# Altium footprint library MezzaninBoard.PcbLib: 17 footprints (part 1 of 2)
Each footprint in its own frame and in the unit in brackets; x right, y up, seen from the top. Pads: shape width x height; smd on the part's side, far side on the other; paste and mask are expansions set on the pad; w line width, h text height; cw(c..) or ccw(c..) is an arc to the next point about the centre after c.
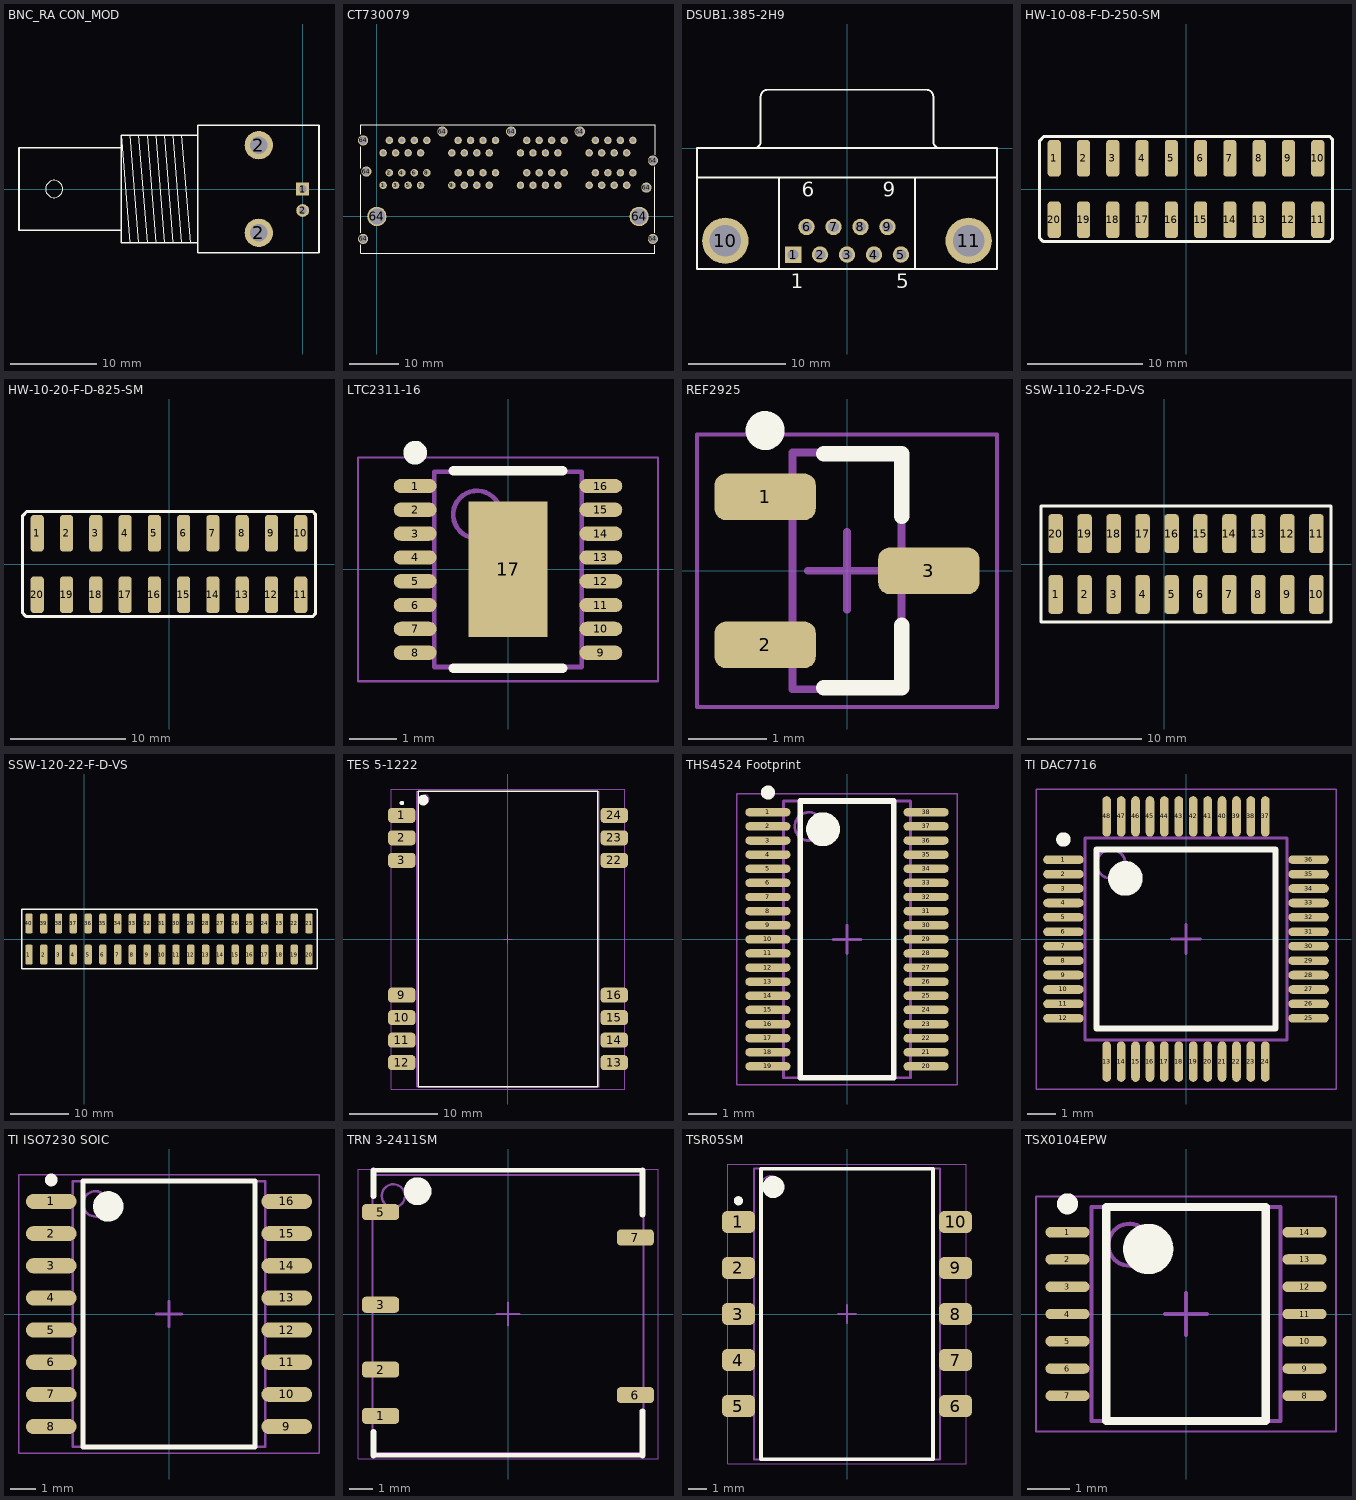
[diagram p0: the footprints below, top view; thin cyan lines are the x and y axes]

## BNC_RA CON_MOD [mm] "Connector; BNC Elbow"
pads (4):
  rect 1.5x1.5 hole 0.9: 1(0,0)
  round 3.3 hole 2: 2(-5.1,-5.1) 2(-5.1,5.1)
  round 1.5 hole 0.9: 2(0,-2.5)
Top Overlay:
  circle w0.025: c-28.9,0 r1
  lines w0.025: -20.1,-6.25 -21.1,6.25 ; -20.1,6.25 -19.1,-6.25 ; -19.1,6.25 -18.1,-6.25 ; -18.1,6.25 -17.1,-6.25 ; -17.1,6.25 -16.1,-6.25 ; -16.1,6.25 -15.1,-6.25 ; -15.1,6.25 -14.1,-6.25 ; -14.1,6.25 -13.1,-6.25 ; -21.1,-4.8 -33,-4.8 -33,4.8 -21.1,4.8 ; -21.1,-4.8 -21.1,4.8 ; -21.1,-4.8 -21.1,-6.25 -12.2,-6.25 ; -21.1,4.8 -21.1,6.25 ; -21.1,6.25 -12.2,6.25 ; -12.2,-6.25 -12.2,6.25 ; -12.2,-6.25 -12.2,-7.4 1.9,-7.4 1.9,7.4 -12.2,7.4 -12.2,6.25
  lines w0.2: -21.1,-4.8 -21.1,4.8 ; -21.1,-4.8 -33,-4.8 -33,4.8 -21.1,4.8 ; -21.1,-4.8 -21.1,-6.25 -12.2,-6.25 ; -21.1,4.8 -21.1,6.25 -12.2,6.25 ; -12.2,-6.25 -12.2,6.25 ; -12.2,-6.25 -12.2,-7.4 1.9,-7.4 1.9,7.4 -12.2,7.4 -12.2,6.25
3D body "227677-1.stp": height 15.88, standoff -4.11, extent -33.655,-7.379 1.905,7.379

## CT730079 [mil] "8 Channel CAT5 Connector"
height 1062.99
pads (75):
  round 60 hole 35: 1(50,250) 2(100,350) 3(150,250) 4(200,350) 5(250,250) 6(300,350) 7(350,250) 8(400,350) 9(600,250) 10(650,350) 11(700,250) 12(750,350) 13(800,250) 14(850,350) 15(900,250) 16(950,350) 17(1150,250) 18(1200,350) 19(1250,250) 20(1300,350) 21(1350,250) 22(1400,350) 23(1450,250) 24(1500,350) 25(1700,250) 26(1750,350) 27(1800,250) 28(1850,350) 29(1900,250) 30(1950,350) 31(2000,250) 32(2050,350) 33(2050,609) 34(2000,509) 35(1950,609) 36(1900,509) 37(1850,609) 38(1800,509) 39(1750,609) 40(1700,509) 41(1500,609) 42(1450,509) 43(1400,609) 44(1350,509) 45(1300,609) 46(1250,509) 47(1200,609) 48(1150,509) 49(950,609) 50(900,509) 51(850,609) 52(800,509) 53(750,609) 54(700,509) 55(650,609) 56(600,509) 57(400,609) 58(350,509) 59(300,609) 60(250,509) 61(200,609) 62(150,509) 63(100,609) 64(50,509)
  round 82 hole 62: 64(-110,-180) 64(-110,609) 64(-84,360) 64(525,680) 64(1075,680) 64(1625,680) 64(2158,231) 64(2210,-180) 64(2210,448)
  round 155 hole 129: 64(0,0) 64(2100,0)
Top Overlay:
  lines w10: -128,-228 -128,-295 2226,-295 2226,-229 ; -128,-132 -128,333 ; -128,657 -128,735 2228,735 2228,496 ; -127,388 -127,560 ; 2226,-131 2226,400
3D body "70042890.stp": height 1037.5, standoff -157.3, extent -165,-415 2245,705

## DSUB1.385-2H9 [mm] "Connector; D Subminiature; 9 Position; Right Angle; Pitch 1.385 mm"
height 12.75
pads (11):
  rect 1.69x1.69 hole 1.09: 1(-5.54,-10.92)
  round 1.69 hole 1.09: 2(-2.77,-10.92) 3(0,-10.92) 4(2.77,-10.92) 5(5.54,-10.92) 6(-4.155,-8.08) 7(-1.385,-8.08) 8(1.385,-8.08) 9(4.155,-8.08)
  round 4.76 hole 3.26: 10(-12.495,-9.5) 11(12.495,-9.5)
Top Overlay:
  lines w0.2: -15.4,-3 15.4,-3 ; -9.56,0.005 ccw(c-9.56,0.7) -8.865,0.7 -8.865,5.3 ; -8.86,5.305 cw(c-8.165,5.305) -8.165,6 8.165,6 cw(c8.165,5.305) 8.86,5.305 ; -7,-12.4 -7,-3 ; 7,-12.4 7,-3 ; 8.865,5.3 8.865,0.7 ccw(c9.56,0.7) 9.56,0.005 ; -15.4,-12.4 -15.4,0 15.4,0 15.4,-12.4 -15.4,-12.4
  text "1" at -5.79,-14.375 h1.5
  text "5" at 5.04,-14.375 h1.5
  text "9" at 3.655,-4.975 h1.5
  text "6" at -4.655,-4.975 h1.5
3D body "c-2311765-1-b-3d.stp": height 12.8, standoff -3.85, extent -15.5,-12.5 15.31,5.7

## HW-10-08-F-D-250-SM [mil]
height 250
pads (20):
  rrect50% 45x125 smd: 1(-450,105) 2(-350,105) 3(-250,105) 4(-150,105) 5(-50,105) 6(50,105) 7(150,105) 8(250,105) 9(350,105) 10(450,105) 11(450,-105) 12(350,-105) 13(250,-105) 14(150,-105) 15(50,-105) 16(-50,-105) 17(-150,-105) 18(-250,-105) 19(-350,-105) 20(-450,-105)
Top Overlay:
  lines w10: -500,-167.5 -500,165 -485,180 490,180 500,170 500,-170 490,-180 -487.5,-180 -492.5,-175 -500,-167.5
3D body "HW-10-08-F-D-250-SM.stp": height 465, standoff 0, extent -500,-147.5 500,147.5

## HW-10-20-F-D-825-SM [mil]
height 825
pads (20):
  rrect50% 45x125 smd: 1(-450,105) 2(-350,105) 3(-250,105) 4(-150,105) 5(-50,105) 6(50,105) 7(150,105) 8(250,105) 9(350,105) 10(450,105) 11(450,-105) 12(350,-105) 13(250,-105) 14(150,-105) 15(50,-105) 16(-50,-105) 17(-150,-105) 18(-250,-105) 19(-350,-105) 20(-450,-105)
Top Overlay:
  lines w10: -500,-167.5 -500,165 -485,180 490,180 500,170 500,-170 490,-180 -487.5,-180 -492.5,-175 -500,-167.5
3D body "HW-10-20-F-D-825-SM.stp": height 1065, standoff 0, extent -500,-147.49 500,147.51

## LTC2311-16 [mm] "16 Bit ADC, Linear Technologies"
height 1.1
pads (17):
  oval 0.9x0.3 smd mask+0.05: 1(-1.95,1.75) 2(-1.95,1.25) 3(-1.95,0.75) 4(-1.95,0.25) 5(-1.95,-0.25) 6(-1.95,-0.75) 7(-1.95,-1.25) 8(-1.95,-1.75) 9(1.95,-1.75) 10(1.95,-1.25) 11(1.95,-0.75) 12(1.95,-0.25) 13(1.95,0.25) 14(1.95,0.75) 15(1.95,1.25) 16(1.95,1.75)
  rect 1.65x2.85 smd: 17(0,0)
Top Overlay:
  circle w0.25: c-1.95,2.45 r0.125
  lines w0.2: -1.15,-2.075 1.15,-2.075 ; -1.15,2.075 1.15,2.075
Mechanical 13:
  circle w0.1: c-0.65,1.15 r0.5
  lines w0.1: -1.55,-2.05 -1.55,2.05 1.55,2.05 1.55,-2.05 -1.55,-2.05
Mechanical 15:
  lines w0.05: -3.15,-2.35 -3.15,2.35 3.15,2.35 3.15,-2.35 -3.15,-2.35
  lines w0.1: -0.5,0 0.5,0 ; 0,-0.5 0,0.5
3D body: height 1.1, standoff 0.05, extent -1.55,-2.05 1.55,2.05

## REF2925 [mm] "TI 2.5V Ref source"
height 1.12
pads (3):
  rrect50% 1.3x0.6 smd: 1(-1.05,0.95) 2(-1.05,-0.95) 3(1.05,0)
Top Overlay:
  circle w0.25: c-1.05,1.8 r0.125
  lines w0.2: -0.3,-1.5 0.7,-1.5 0.7,-0.7 ; -0.3,1.5 0.7,1.5 0.7,0.7
Mechanical 13:
  lines w0.1: -0.7,-1.52 -0.7,1.52 0.7,1.52 0.7,-1.52 -0.7,-1.52
Mechanical 15:
  lines w0.05: -1.925,-1.75 -1.925,1.75 1.925,1.75 1.925,-1.75 -1.925,-1.75
  lines w0.1: -0.5,0 0.5,0 ; 0,-0.5 0,0.5
3D body: height 1.12, standoff 0.05, extent -0.7,-1.52 0.7,1.52

## SSW-110-22-F-D-VS [mm]
height 8.509
pads (20):
  rrect50% 1.27x3.43 smd: 1(-9.525,-2.667) 2(-6.985,-2.667) 3(-4.445,-2.667) 4(-1.905,-2.667) 5(0.635,-2.667) 6(3.175,-2.667) 7(5.715,-2.667) 8(8.255,-2.667) 9(10.795,-2.667) 10(13.335,-2.667) 11(13.335,2.667) 12(10.795,2.667) 13(8.255,2.667) 14(5.715,2.667) 15(3.175,2.667) 16(0.635,2.667) 17(-1.905,2.667) 18(-4.445,2.667) 19(-6.985,2.667) 20(-9.525,2.667)
Top Overlay:
  lines w0.254: -10.795,-5.08 14.605,-5.08 14.605,5.08 -10.795,5.08 -10.795,-5.08
3D body: height 0.25, standoff 0, extent 0.127,-4.699 0.127,-4.699
3D body "SSW-110-22-F-D-VS.stp": height 9.78, standoff 0, extent -11.049,-3.937 14.859,3.937
3D body: height 0.25, standoff 0, extent 1.905,0 1.905,0

## SSW-120-22-F-D-VS [mil]
height 335
pads (40):
  rrect50% 50x135.04 smd: 1(-375,-105) 2(-275,-105) 3(-175,-105) 4(-75,-105) 5(25,-105) 6(125,-105) 7(225,-105) 8(325,-105) 9(425,-105) 10(525,-105) 11(620,-105) 12(720,-105) 13(820,-105) 14(920,-105) 15(1020,-105) 16(1120,-105) 17(1220,-105) 18(1320,-105) 19(1420,-105) 20(1520,-105) 21(1520,105) 22(1420,105) 23(1320,105) 24(1220,105) 25(1120,105) 26(1020,105) 27(920,105) 28(820,105) 29(720,105) 30(620,105) 31(525,105) 32(425,105) 33(325,105) 34(225,105) 35(125,105) 36(25,105) 37(-75,105) 38(-175,105) 39(-275,105) 40(-375,105)
Top Overlay:
  lines w10: 575,-200 1575,-200 ; 575,200 1575,200 ; 1575,-200 -425,-200 -425,200 1575,200 ; 1575,-200 1575,200
3D body: height 10, standoff 0, extent 75,0 75,0
3D body: height 10, standoff 0, extent 5,-185 5,-185
3D body: height 10, standoff 0, extent 770,315 770,315
3D body "SSW-120-22-F-D-VS.stp": height 385, standoff 0, extent -434.99,-154.99 1585.01,155

## TES 5-1222 [mm]
height 10.2
pads (14):
  rrect50% 3.1x1.7 smd: 1(-12,13.97) 2(-12,11.43) 3(-12,8.89) 9(-12,-6.35) 10(-12,-8.89) 11(-12,-11.43) 12(-12,-13.97) 13(12,-13.97) 14(12,-11.43) 15(12,-8.89) 16(12,-6.35) 22(12,8.89) 23(12,11.43) 24(12,13.97)
Top Overlay:
  circle w0.25: c-12,15.37 r0.125
  circle w0.6: c-9.575,15.7 r0.3
  lines w0.2: -10.135,-16.7 -10.135,16.7 10.135,16.7 10.135,-16.7 -10.135,-16.7
Mechanical 13:
  circle w0.1: c-9.4,15.8 r0.5
  lines w0.1: -10.3,-16.7 -10.3,16.7 10.3,16.7 10.3,-16.7 -10.3,-16.7
Mechanical 15:
  lines w0.05: -13.2,-16.95 -13.2,16.95 13.2,16.95 13.2,-16.95 -13.2,-16.95
  lines w0.1: -0.5,0 0.5,0 ; 0,-0.5 0,0.5
3D body: height 10.2, standoff 0.4, extent -10.3,-16.7 10.3,16.7

## THS4524 Footprint [mm] "THS4524 4Ch Dif Amp, TSSOP"
height 1.2
pads (38):
  oval 1.6x0.3 smd mask+0.05: 1(-2.8,4.5) 2(-2.8,4) 3(-2.8,3.5) 4(-2.8,3) 5(-2.8,2.5) 6(-2.8,2) 7(-2.8,1.5) 8(-2.8,1) 9(-2.8,0.5) 10(-2.8,0) 11(-2.8,-0.5) 12(-2.8,-1) 13(-2.8,-1.5) 14(-2.8,-2) 15(-2.8,-2.5) 16(-2.8,-3) 17(-2.8,-3.5) 18(-2.8,-4) 19(-2.8,-4.5) 20(2.8,-4.5) 21(2.8,-4) 22(2.8,-3.5) 23(2.8,-3) 24(2.8,-2.5) 25(2.8,-2) 26(2.8,-1.5) 27(2.8,-1) 28(2.8,-0.5) 29(2.8,0) 30(2.8,0.5) 31(2.8,1) 32(2.8,1.5) 33(2.8,2) 34(2.8,2.5) 35(2.8,3) 36(2.8,3.5) 37(2.8,4) 38(2.8,4.5)
Top Overlay:
  circle w0.6: c-0.85,3.9 r0.3
  circle w0.25: c-2.8,5.2 r0.125
  lines w0.2: -1.651,-4.9 1.651,-4.9 1.651,4.9 -1.651,4.9 -1.651,-4.9
Mechanical 13:
  circle w0.1: c-1.35,4 r0.5
  lines w0.1: -2.25,-4.9 2.25,-4.9 2.25,4.9 -2.25,4.9 -2.25,-4.9
Mechanical 15:
  lines w0.05: -3.9,-5.15 3.9,-5.15 3.9,5.15 -3.9,5.15 -3.9,-5.15
  lines w0.1: -0.5,0 0.5,0 ; 0,-0.5 0,0.5
3D body: height 1.2, standoff 0.05, extent -2.25,-4.9 2.25,4.9

## TI DAC7716 [mm] "TSQFP, 48-Leads, Body 7,00x7,00mm, Pitch 0,50mm, IPC Medium Density"
height 1.2
pads (48):
  oval 1.4x0.3 smd mask+0.05: 1(-4.25,2.75) 2(-4.25,2.25) 3(-4.25,1.75) 4(-4.25,1.25) 5(-4.25,0.75) 6(-4.25,0.25) 7(-4.25,-0.25) 8(-4.25,-0.75) 9(-4.25,-1.25) 10(-4.25,-1.75) 11(-4.25,-2.25) 12(-4.25,-2.75) 25(4.25,-2.75) 26(4.25,-2.25) 27(4.25,-1.75) 28(4.25,-1.25) 29(4.25,-0.75) 30(4.25,-0.25) 31(4.25,0.25) 32(4.25,0.75) 33(4.25,1.25) 34(4.25,1.75) 35(4.25,2.25) 36(4.25,2.75)
  oval 0.3x1.4 smd mask+0.05: 13(-2.75,-4.25) 14(-2.25,-4.25) 15(-1.75,-4.25) 16(-1.25,-4.25) 17(-0.75,-4.25) 18(-0.25,-4.25) 19(0.25,-4.25) 20(0.75,-4.25) 21(1.25,-4.25) 22(1.75,-4.25) 23(2.25,-4.25) 24(2.75,-4.25) 37(2.75,4.25) 38(2.25,4.25) 39(1.75,4.25) 40(1.25,4.25) 41(0.75,4.25) 42(0.25,4.25) 43(-0.25,4.25) 44(-0.75,4.25) 45(-1.25,4.25) 46(-1.75,4.25) 47(-2.25,4.25) 48(-2.75,4.25)
Top Overlay:
  circle w0.6: c-2.1,2.1 r0.3
  circle w0.25: c-4.25,3.45 r0.125
  lines w0.2: -3.1,-3.1 3.1,-3.1 3.1,3.1 -3.1,3.1 -3.1,-3.1
Mechanical 13:
  circle w0.1: c-2.6,2.6 r0.5
  lines w0.1: -3.5,-3.5 3.5,-3.5 3.5,3.5 -3.5,3.5 -3.5,-3.5
Mechanical 15:
  lines w0.05: -5.2,-5.2 5.2,-5.2 5.2,5.2 -5.2,5.2 -5.2,-5.2
  lines w0.1: -0.5,0 0.5,0 ; 0,-0.5 0,0.5
3D body: height 1.2, standoff 0.05, extent -3.5,-3.5 3.5,3.5

## TI ISO7230 SOIC [mm] "SOIC, 16-Leads, Body 10,30x7,50mm, Pitch 1,27mm, IPC Medium Density"
height 2.65
pads (16):
  oval 2x0.6 smd: 1(-4.65,4.445) 2(-4.65,3.175) 3(-4.65,1.905) 4(-4.65,0.635) 5(-4.65,-0.635) 6(-4.65,-1.905) 7(-4.65,-3.175) 8(-4.65,-4.445) 9(4.65,-4.445) 10(4.65,-3.175) 11(4.65,-1.905) 12(4.65,-0.635) 13(4.65,0.635) 14(4.65,1.905) 15(4.65,3.175) 16(4.65,4.445)
Top Overlay:
  circle w0.25: c-4.65,5.295 r0.125
  circle w0.6: c-2.4,4.25 r0.3
  lines w0.2: -3.4,-5.25 -3.4,5.25 3.4,5.25 3.4,-5.25 -3.4,-5.25
Mechanical 13:
  circle w0.1: c-2.9,4.35 r0.5
  lines w0.1: -3.8,-5.25 -3.8,5.25 3.8,5.25 3.8,-5.25 -3.8,-5.25
Mechanical 15:
  lines w0.05: -5.925,-5.5 -5.925,5.5 5.925,5.5 5.925,-5.5 -5.925,-5.5
  lines w0.1: -0.5,0 0.5,0 ; 0,-0.5 0,0.5
3D body: height 2.65, standoff 0.1, extent -3.8,-5.25 3.8,5.25

## TRN 3-2411SM [mm]
height 8
pads (6):
  rrect50% 1.6x0.7 smd: 1(-5.5,-4.4) 2(-5.5,-2.4) 3(-5.5,0.4) 5(-5.5,4.4) 6(5.5,-3.5) 7(5.5,3.3)
Top Overlay:
  circle w0.6: c-3.9,5.3 r0.3
  lines w0.2: -5.8,-6.1 5.8,-6.1 ; -5.8,6.2 5.8,6.2
  lines w0.254: -5.8,-6.1 -5.8,-5.1 ; -5.8,5.1 -5.8,6.2 ; 5.8,-6.1 5.8,-4.2 ; 5.8,4.3 5.8,6.2
Mechanical 13:
  circle w0.1: c-4.95,5.1 r0.5
  lines w0.1: -5.85,-6 -5.85,6 5.85,6 5.85,-6 -5.85,-6
Mechanical 15:
  lines w0.05: -6.475,-6.25 -6.475,6.25 6.475,6.25 6.475,-6.25 -6.475,-6.25
  lines w0.1: -0.5,0 0.5,0 ; 0,-0.5 0,0.5
3D body: height 8, standoff 0.2, extent -5.85,-6 5.85,6

## TSR05SM [mm]
height 9.8
pads (10):
  rrect50% 1.8x1.2 smd: 1(-5.9,5) 2(-5.9,2.5) 3(-5.9,0) 4(-5.9,-2.5) 5(-5.9,-5) 6(5.9,-5) 7(5.9,-2.5) 8(5.9,0) 9(5.9,2.5) 10(5.9,5)
Top Overlay:
  circle w0.6: c-4,6.9 r0.3
  circle w0.25: c-5.9,6.15 r0.125
  lines w0.2: -4.674,-7.9 4.674,-7.9 4.674,7.9 -4.674,7.9 -4.674,-7.9
Mechanical 13:
  circle w0.1: c-4.15,7 r0.5
  lines w0.1: -5.05,-7.9 5.05,-7.9 5.05,7.9 -5.05,7.9 -5.05,-7.9
Mechanical 15:
  lines w0.05: -6.475,-8.15 6.475,-8.15 6.475,8.15 -6.475,8.15 -6.475,-8.15
  lines w0.1: -0.5,0 0.5,0 ; 0,-0.5 0,0.5
3D body: height 9.8, standoff 0.1, extent -5.05,-7.9 5.05,7.9

## TSX0104EPW [mm]
height 1.2
pads (14):
  oval 1.05x0.25 smd: 1(-2.825,1.95) 2(-2.825,1.3) 3(-2.825,0.65) 4(-2.825,0) 5(-2.825,-0.65) 6(-2.825,-1.3) 7(-2.825,-1.95) 8(2.825,-1.95) 9(2.825,-1.3) 10(2.825,-0.65) 11(2.825,0) 12(2.825,0.65) 13(2.825,1.3) 14(2.825,1.95)
Top Overlay:
  circle w0.6: c-0.9,1.55 r0.3
  circle w0.25: c-2.825,2.625 r0.125
  lines w0.2: -1.9,-2.55 1.9,-2.55 1.9,2.55 -1.9,2.55 -1.9,-2.55
Mechanical 13:
  circle w0.1: c-1.35,1.65 r0.5
  lines w0.1: -2.25,-2.55 2.25,-2.55 2.25,2.55 -2.25,2.55 -2.25,-2.55
Mechanical 15:
  lines w0.05: -3.575,-2.8 3.575,-2.8 3.575,2.8 -3.575,2.8 -3.575,-2.8
  lines w0.1: -0.5,0 0.5,0 ; 0,-0.5 0,0.5
3D body: height 1.2, standoff 0.05, extent -2.25,-2.55 2.25,2.55